# Altium footprint library Con IEEE1394.PcbLib: 5 footprints
Each footprint in its own frame and in the unit in brackets; x right, y up, seen from the top. Pads: shape width x height; smd on the part's side, far side on the other; paste and mask are expansions set on the pad; w line width, h text height; cw(c..) or ccw(c..) is an arc to the next point about the centre after c.
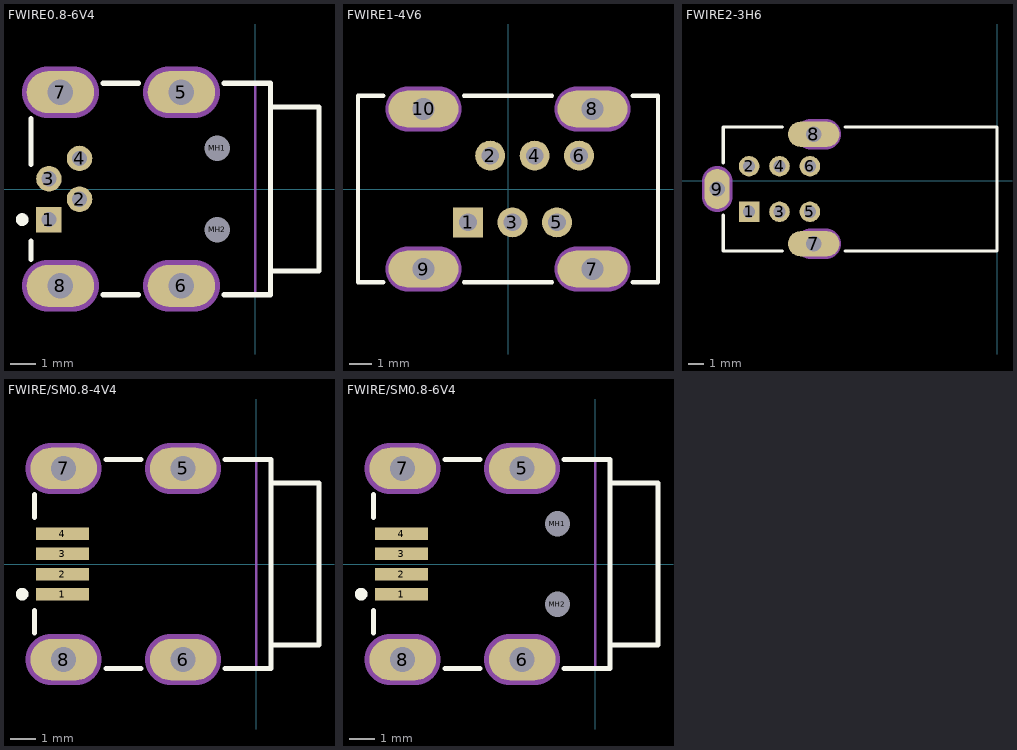
[diagram p0: the footprints below, top view; thin cyan lines are the x and y axes]

## FWIRE0.8-6V4 [mm] "Connector; IEEE1394, Thru-Hole; 4 Position; Vertical"
height 9.7
pads (10):
  rect 1x1 hole 0.6: 1(-8.1,-1.199)
  round 1 hole 0.6: 2(-6.9,-0.399) 3(-8.1,0.401) 4(-6.9,1.201)
  oval 2.65x1.65 hole 1: 5(-2.9,3.801) 6(-2.9,-3.799) 7(-7.65,3.801) 8(-7.65,-3.799)
  round 0.7 hole 1 unplated: MH1(-1.5,1.601) MH2(-1.5,-1.599)
Top Overlay:
  circle w0.25: c-9.151,-1.199 r0.125
  lines w0.2: -8.8,-2.759 -8.8,-2.049 ; -8.8,0.971 -8.8,2.761 ; -5.97,-4.149 -4.58,-4.149 ; -5.97,4.151 -4.58,4.151 ; -1.23,-4.149 0.6,-4.149 0.6,4.151 -1.23,4.151 ; 0.6,-3.224 2.5,-3.224 2.5,3.226 0.6,3.226
Mechanical 1:
  lines w0.1: 0,-4.149 0,4.151
  lines w1: -8.15,-3.799 -7.15,-3.799 ; -8.15,3.801 -7.15,3.801 ; -3.4,-3.799 -2.4,-3.799 ; -3.4,3.801 -2.4,3.801
  text "Alert PCB fab to slot details" at -9.5,6.571 h0.3
  text "Slot 1x2mm, PTH" at -9.5,6.071 h0.3
  text "Assign keep-out area to slot" at -9.5,7.071 h0.3
  text "Mech 1 - Slot cut-out" at -9.5,5.571 h0.3
  text "Mech 2 - Clearance, move to internal plane if present" at -9.5,5.071 h0.3
  text "PCB Edge" at 0.37,-3.705 h0.25
Mechanical 2:
  lines w2.016: -8.15,-3.799 -7.15,-3.799 ; -8.15,3.801 -7.15,3.801 ; -3.4,-3.799 -2.4,-3.799 ; -3.4,3.801 -2.4,3.801

## FWIRE1-4V6 [mm] "Connector; IEEE1394, Thru-Hole; 6 Position; Vertical"
height 16.5
pads (10):
  rect 1.35x1.35 hole 0.8: 1(-1.8,-1.5)
  round 1.35 hole 0.8: 2(-0.8,1.5) 3(0.2,-1.5) 4(1.2,1.5) 5(2.2,-1.5) 6(3.2,1.5)
  oval 3.15x1.65 hole 1: 7(3.8,-3.6) 8(3.8,3.6) 9(-3.8,-3.6) 10(-3.8,3.6)
Top Overlay:
  lines w0.2: -5.62,-4.2 -6.75,-4.2 -6.75,4.2 -5.62,4.2 ; -1.98,-4.2 1.98,-4.2 ; -1.98,4.2 1.98,4.2 ; 5.62,-4.2 6.75,-4.2 6.75,4.2 5.62,4.2
Mechanical 1:
  lines w1: -4.5,-3.6 -3.1,-3.6 ; -4.5,3.6 -3.1,3.6 ; 3.1,-3.6 4.5,-3.6 ; 3.1,3.6 4.5,3.6
  text "Alert PCB fab to slot details" at -6.877,6.395 h0.3
  text "Slot 1x2.5mm, PTH" at -6.876,5.895 h0.3
  text "Assign keep-out area to slot" at -6.877,6.895 h0.3
  text "Mech 1 - Slot cut-out" at -6.877,5.395 h0.3
  text "Mech 2 - Clearance, move to internal plane if present" at -6.877,4.895 h0.3
Mechanical 2:
  lines w2.016: -4.5,-3.6 -3.1,-3.6 ; -4.5,3.6 -3.1,3.6 ; 3.1,-3.6 4.5,-3.6 ; 3.1,3.6 4.5,3.6

## FWIRE2-3H6 [mm] "Connector; IEEE1394, Thru-Hole; 6 Position; Right Angle"
height 13.7
pads (9):
  rect 1.35x1.35 hole 0.8: 1(-16.3,-2.053)
  round 1.35 hole 0.8: 2(-16.3,0.947) 3(-14.3,-2.053) 4(-14.3,0.947) 5(-12.3,-2.053) 6(-12.3,0.947)
  oval 3.4x1.65 hole 1: 7(-12.05,-4.153) 8(-12.05,3.047)
  oval 1.65x2.65 hole 1: 9(-18.4,-0.553)
Top Overlay:
  lines w0.2: -18,-2.278 -18,-4.628 -14.096,-4.628 ; -18,1.172 -18,3.522 -14.096,3.522 ; -10.004,-4.628 0,-4.628 0,3.522 -10.004,3.522
Mechanical 1:
  lines w1: -18.4,-1.053 -18.4,-0.053 ; -12.25,-4.153 -11.25,-4.153 ; -12.25,3.047 -11.25,3.047
  text "Mech 2 - Clearance, move to internal plane if present" at -18.411,4.524 h0.3
  text "Mech 1 - Slot cut-out" at -18.411,5.024 h0.3
  text "Assign keep-out area to slot" at -18.411,6.524 h0.3
  text "Slot 1x2mm, PTH" at -18.411,5.524 h0.3
  text "Alert PCB fab to slot details" at -18.411,6.024 h0.3
Mechanical 2:
  lines w1: -18.4,-1.053 -18.4,-0.053
  lines w2.016: -18.4,-1.053 -18.4,-0.053 ; -12.25,-4.153 -11.25,-4.153 ; -12.25,3.047 -11.25,3.047

## FWIRE/SM0.8-4V4 [mm] "Connector; IEEE1394, SM; 4 Position; Vertical"
height 11.1
pads (8):
  rect 2.1x0.5 smd: 1(-7.7,-1.199) 2(-7.7,-0.399) 3(-7.7,0.401) 4(-7.7,1.201)
  oval 2.65x1.65 hole 1: 5(-2.9,3.801) 6(-2.9,-3.799) 7(-7.65,3.801) 8(-7.65,-3.799)
Top Overlay:
  circle w0.25: c-9.3,-1.199 r0.125
  lines w0.2: -8.8,-2.749 -8.8,-1.849 ; -8.8,1.85 -8.8,2.76 ; -5.97,-4.149 -4.58,-4.149 ; -5.97,4.151 -4.58,4.151 ; -1.23,-4.149 0.6,-4.149 0.6,4.15 -1.23,4.151 ; 0.6,-3.224 2.5,-3.224 2.5,3.226 0.6,3.226
Mechanical 1:
  lines w0.1: 0,-4.149 0,4.151
  lines w1: -8.15,-3.799 -7.15,-3.799 ; -8.15,3.801 -7.15,3.801 ; -3.4,-3.799 -2.4,-3.799 ; -3.4,3.801 -2.4,3.801
  text "PCB Edge" at 0.35,-3.6 h0.25
  text "Mech 2 - Clearance, move to internal plane if present" at -9.5,5.071 h0.3
  text "Mech 1 - Slot cut-out" at -9.5,5.57 h0.3
  text "Assign keep-out area to slot" at -9.5,7.071 h0.3
  text "Slot 1x2mm, PTH" at -9.5,6.071 h0.3
  text "Alert PCB fab to slot details" at -9.5,6.57 h0.3
Mechanical 2:
  lines w2.016: -8.15,-3.799 -7.15,-3.799 ; -8.15,3.801 -7.15,3.801 ; -3.4,-3.799 -2.4,-3.799 ; -3.4,3.801 -2.4,3.801

## FWIRE/SM0.8-6V4 [mm] "Connector; IEEE1394, SM; 4 Position; Vertical"
height 9.7
pads (10):
  rect 2.1x0.5 smd: 1(-7.7,-1.2) 2(-7.7,-0.4) 3(-7.7,0.4) 4(-7.7,1.2)
  oval 2.65x1.65 hole 1: 5(-2.9,3.8) 6(-2.9,-3.8) 7(-7.65,3.8) 8(-7.65,-3.8)
  round 0.7 hole 1 unplated: MH1(-1.5,1.6) MH2(-1.5,-1.6)
Top Overlay:
  circle w0.25: c-9.3,-1.2 r0.125
  lines w0.2: -8.8,-2.75 -8.8,-1.85 ; -8.8,1.85 -8.8,2.76 ; -5.97,-4.15 -4.58,-4.15 ; -5.97,4.15 -4.58,4.15 ; -1.229,-4.149 0.6,-4.149 ; -1.229,4.151 0.6,4.151 0.6,-4.15 ; 0.6,-3.225 2.5,-3.225 2.5,3.225 0.6,3.225
Mechanical 1:
  lines w0.1: 0,-4.15 0,4.15
  lines w1: -8.15,-3.8 -7.15,-3.8 ; -8.15,3.8 -7.15,3.8 ; -3.4,-3.8 -2.4,-3.8 ; -3.4,3.8 -2.4,3.8
  text "Alert PCB fab to slot details" at -9.5,6.57 h0.3
  text "Slot 1x2mm, PTH" at -9.5,6.07 h0.3
  text "Assign keep-out area to slot" at -9.5,7.07 h0.3
  text "Mech 1 - Slot cut-out" at -9.5,5.57 h0.3
  text "Mech 2 - Clearance, move to internal plane if present" at -9.5,5.07 h0.3
  text "PCB Edge" at 0.35,-3.6 h0.25
Mechanical 2:
  lines w2.016: -8.15,-3.8 -7.15,-3.8 ; -8.15,3.8 -7.15,3.8 ; -3.4,-3.8 -2.4,-3.8 ; -3.4,3.8 -2.4,3.8